# EAGLE library part 691219610003 (library Terminal_Blocks_Connectors_rev15e)
WR-TBL Serie 2196 - 10.16mm Horizontal Entry Modular with Rising Cage Clamp - 8.5mm2 Wires, 3 Pins=>Code : Con_TBL_Screw_RisingClamp_10.16_691219610003 <http://katalog.we-online.de/media/images/eican/Con_TBL_Screw_RisingClamp_10.16_6912196100xx_pf2.jpg> Details see: http://katalog.we-online.de/en/em/691_219_610_0xx Created 2014-06-18, Karrer Zheng 2014 (C) Würth Elektronik
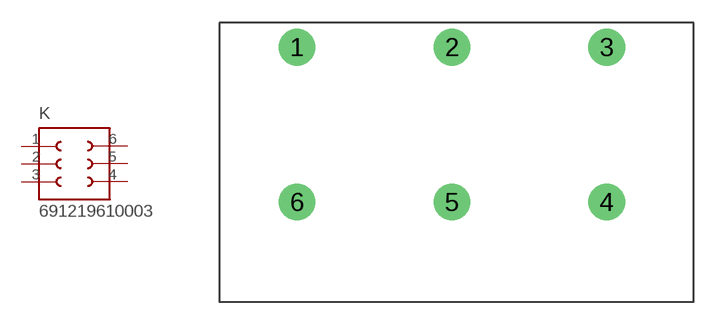
[diagram p10: symbol with the pads of 691219610003; footprint 691219610003]

Designator prefix K

## 691219610003  [691219610003]
1  1  pas
2  2  pas
3  3  pas
4  4  pas
5  5  pas
6  6  pas

## Footprint 691219610003 (pad centres in mm)
WR-TBL Serie 2196 - 10.16mm Horizontal Entry Modular with Rising Cage Clamp - 8.5mm2 Wires, 3 Pins
drill 1.6: 1 -10.16,0; 2 0,0; 3 10.16,0; 4 10.16,-10.16; 5 0,-10.16; 6 -10.16,-10.16